# EAGLE library part TEENSY3.2 (library TEENSY3.2)
Teensy 3.2 Board Source: Datasheet <https://www.pjrc.com/store/teensy32.html>
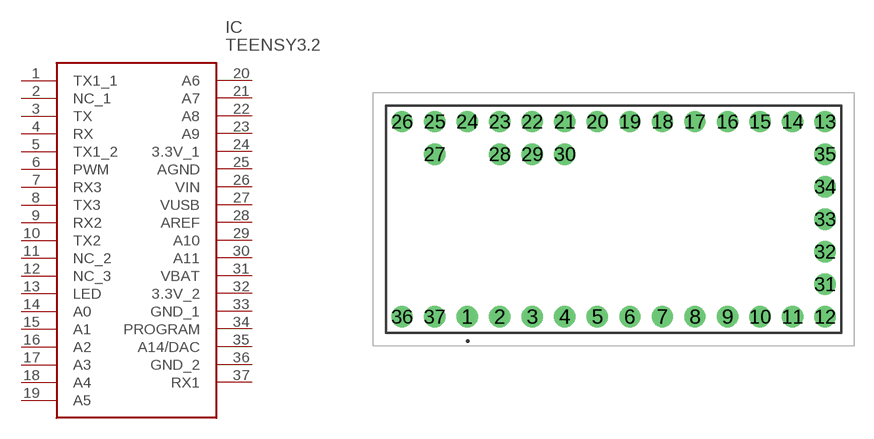
[diagram p0: symbol with the pads of TEENSY32; footprint TEENSY32]

Designator prefix IC

## TEENSY3.2 (Description: Teensy 3.2 Board; Height: 4.07mm; Manufacturer_Name: PJRC; Manufacturer_Part_Number: TEENSY3.2)  [TEENSY32]
1  TX1_1
2  NC_1
3  TX
4  RX
5  TX1_2
6  PWM
7  RX3
8  TX3
9  RX2
10  TX2
11  NC_2
12  NC_3
13  LED
14  A0
15  A1
16  A2
17  A3
18  A4
19  A5
20  A6
21  A7
22  A8
23  A9
24  3.3V_1
25  AGND
26  VIN
27  VUSB
28  AREF
29  A10
30  A11
31  VBAT
32  3.3V_2
33  GND_1
34  PROGRAM
35  A14/DAC
36  GND_2
37  RX1

## Footprint TEENSY32 (pad centres in mm)
TEENSY3.2-3
drill 1.11 pad 1.665: 1 0,0; 2 2.54,0; 3 5.08,0; 4 7.62,0; 5 10.16,0; 6 12.7,0; 7 15.24,0; 8 17.78,0; 9 20.32,0; 10 22.86,0; 11 25.4,0; 12 27.94,0; 13 27.94,15.24; 14 25.4,15.24; 15 22.86,15.24; 16 20.32,15.24; 17 17.78,15.24; 18 15.24,15.24; 19 12.7,15.24; 20 10.16,15.24; 21 7.62,15.24; 22 5.08,15.24; 23 2.54,15.24; 24 0,15.24; 25 -2.54,15.24; 26 -5.08,15.24; 27 -2.54,12.7; 28 2.54,12.7; 29 5.08,12.7; 30 7.62,12.7; 31 27.94,2.54; 32 27.94,5.08; 33 27.94,7.62; 34 27.94,10.16; 35 27.94,12.7; 36 -5.08,0; 37 -2.54,0